# EAGLE library part SOCKET_LBGA256 (library microbuilder)
LBGA256 socket ... pitch is 1 mm
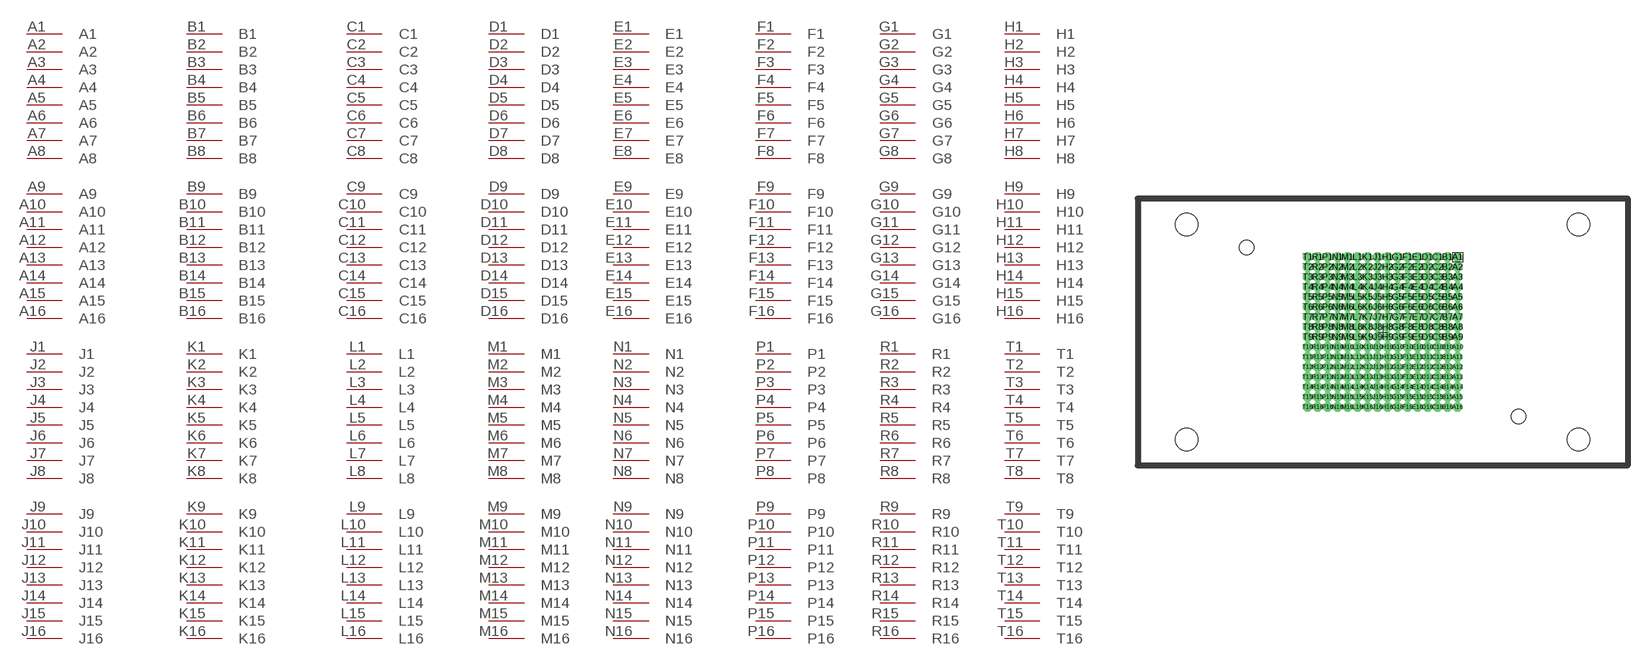
[diagram p130: symbol with the pads of SOCKET_LBGA256_8117-256-4E-01; footprint SOCKET_LBGA256_8117-256-4E-01]

Designator prefix IC

## SOCKET_LBGA256  [SOCKET_LBGA256_8117-256-4E-01]
A1  A1
A2  A2
A3  A3
A4  A4
A5  A5
A6  A6
A7  A7
A8  A8
A9  A9
A10  A10
A11  A11
A12  A12
A13  A13
A14  A14
A15  A15
A16  A16
B1  B1
B2  B2
B3  B3
B4  B4
B5  B5
B6  B6
B7  B7
B8  B8
B9  B9
B10  B10
B11  B11
B12  B12
B13  B13
B14  B14
B15  B15
B16  B16
C1  C1
C2  C2
C3  C3
C4  C4
C5  C5
C6  C6
C7  C7
C8  C8
C9  C9
C10  C10
C11  C11
C12  C12
C13  C13
C14  C14
C15  C15
C16  C16
D1  D1
D2  D2
D3  D3
D4  D4
D5  D5
D6  D6
D7  D7
D8  D8
D9  D9
D10  D10
D11  D11
D12  D12
D13  D13
D14  D14
D15  D15
D16  D16
E1  E1
E2  E2
E3  E3
E4  E4
E5  E5
E6  E6
E7  E7
E8  E8
E9  E9
E10  E10
E11  E11
E12  E12
E13  E13
E14  E14
E15  E15
E16  E16
F1  F1
F2  F2
F3  F3
F4  F4
F5  F5
F6  F6
F7  F7
F8  F8
F9  F9
F10  F10
F11  F11
F12  F12
F13  F13
F14  F14
F15  F15
F16  F16
G1  G1
G2  G2
G3  G3
G4  G4
G5  G5
G6  G6
G7  G7
G8  G8
G9  G9
G10  G10
G11  G11
G12  G12
G13  G13
G14  G14
G15  G15
G16  G16
H1  H1
H2  H2
H3  H3
H4  H4
H5  H5
H6  H6
H7  H7
H8  H8
H9  H9
H10  H10
H11  H11
H12  H12
H13  H13
H14  H14
H15  H15
H16  H16
J1  J1
J2  J2
J3  J3
J4  J4
J5  J5
J6  J6
J7  J7
J8  J8
J9  J9
J10  J10
J11  J11
J12  J12
J13  J13
J14  J14
J15  J15
J16  J16
K1  K1
K2  K2
K3  K3
K4  K4
K5  K5
K6  K6
K7  K7
K8  K8
K9  K9
K10  K10
K11  K11
K12  K12
K13  K13
K14  K14
K15  K15
K16  K16
L1  L1
L2  L2
L3  L3
L4  L4
L5  L5
L6  L6
L7  L7
L8  L8
L9  L9
L10  L10
L11  L11
L12  L12
L13  L13
L14  L14
L15  L15
L16  L16
M1  M1
M2  M2
M3  M3
M4  M4
M5  M5
M6  M6
M7  M7
M8  M8
M9  M9
M10  M10
M11  M11
M12  M12
M13  M13
M14  M14
M15  M15
M16  M16
N1  N1
N2  N2
N3  N3
N4  N4
N5  N5
N6  N6
N7  N7
N8  N8
N9  N9
N10  N10
N11  N11
N12  N12
N13  N13
N14  N14
N15  N15
N16  N16
P1  P1
P2  P2
P3  P3
P4  P4
P5  P5
P6  P6
P7  P7
P8  P8
P9  P9
P10  P10
P11  P11
P12  P12
P13  P13
P14  P14
P15  P15
P16  P16
R1  R1
R2  R2
R3  R3
R4  R4
R5  R5
R6  R6
R7  R7
R8  R8
R9  R9
R10  R10
R11  R11
R12  R12
R13  R13
R14  R14
R15  R15
R16  R16
T1  T1
T2  T2
T3  T3
T4  T4
T5  T5
T6  T6
T7  T7
T8  T8
T9  T9
T10  T10
T11  T11
T12  T12
T13  T13
T14  T14
T15  T15
T16  T16

## Footprint SOCKET_LBGA256_8117-256-4E-01 (pad centres in mm)
Wells 8117-256-4E-01 LBGA 256 socket LBGA256 ... pitch is 1 mm / diameter pin = 0.43 mm
drill 0.43 pad 0.7 octagon: A1 7.5,7.5; A2 7.5,6.5; A3 7.5,5.5; A4 7.5,4.5; A5 7.5,3.5; A6 7.5,2.5; A7 7.5,1.5; A8 7.5,0.5; A9 7.5,-0.5; A10 7.5,-1.5; A11 7.5,-2.5; A12 7.5,-3.5; A13 7.5,-4.5; A14 7.5,-5.5; A15 7.5,-6.5; A16 7.5,-7.5; B1 6.5,7.5; B2 6.5,6.5; B3 6.5,5.5; B4 6.5,4.5; B5 6.5,3.5; B6 6.5,2.5; B7 6.5,1.5; B8 6.5,0.5; B9 6.5,-0.5; B10 6.5,-1.5; B11 6.5,-2.5; B12 6.5,-3.5; B13 6.5,-4.5; B14 6.5,-5.5; B15 6.5,-6.5; B16 6.5,-7.5; C1 5.5,7.5; C2 5.5,6.5; C3 5.5,5.5; C4 5.5,4.5; C5 5.5,3.5; C6 5.5,2.5; C7 5.5,1.5; C8 5.5,0.5; C9 5.5,-0.5; C10 5.5,-1.5; C11 5.5,-2.5; C12 5.5,-3.5; C13 5.5,-4.5; C14 5.5,-5.5; C15 5.5,-6.5; C16 5.5,-7.5; D1 4.5,7.5; D2 4.5,6.5; D3 4.5,5.5; D4 4.5,4.5; D5 4.5,3.5; D6 4.5,2.5; D7 4.5,1.5; D8 4.5,0.5; D9 4.5,-0.5; D10 4.5,-1.5; D11 4.5,-2.5; D12 4.5,-3.5; D13 4.5,-4.5; D14 4.5,-5.5; D15 4.5,-6.5; D16 4.5,-7.5; E1 3.5,7.5; E2 3.5,6.5; E3 3.5,5.5; E4 3.5,4.5; E5 3.5,3.5; E6 3.5,2.5; E7 3.5,1.5; E8 3.5,0.5; E9 3.5,-0.5; E10 3.5,-1.5; E11 3.5,-2.5; E12 3.5,-3.5; E13 3.5,-4.5; E14 3.5,-5.5; E15 3.5,-6.5; E16 3.5,-7.5; F1 2.5,7.5; F2 2.5,6.5; F3 2.5,5.5; F4 2.5,4.5; F5 2.5,3.5; F6 2.5,2.5; F7 2.5,1.5; F8 2.5,0.5; F9 2.5,-0.5; F10 2.5,-1.5; F11 2.5,-2.5; F12 2.5,-3.5; F13 2.5,-4.5; F14 2.5,-5.5; F15 2.5,-6.5; F16 2.5,-7.5; G1 1.5,7.5; G2 1.5,6.5; G3 1.5,5.5; G4 1.5,4.5; G5 1.5,3.5; G6 1.5,2.5; G7 1.5,1.5; G8 1.5,0.5; G9 1.5,-0.5; G10 1.5,-1.5; G11 1.5,-2.5; G12 1.5,-3.5; G13 1.5,-4.5; G14 1.5,-5.5; G15 1.5,-6.5; G16 1.5,-7.5; H1 0.5,7.5; H2 0.5,6.5; H3 0.5,5.5; H4 0.5,4.5; H5 0.5,3.5; H6 0.5,2.5; H7 0.5,1.5; H8 0.5,0.5; H9 0.5,-0.5; H10 0.5,-1.5; H11 0.5,-2.5; H12 0.5,-3.5; H13 0.5,-4.5; H14 0.5,-5.5; H15 0.5,-6.5; H16 0.5,-7.5; J1 -0.5,7.5; J2 -0.5,6.5; J3 -0.5,5.5; J4 -0.5,4.5; J5 -0.5,3.5; J6 -0.5,2.5; J7 -0.5,1.5; J8 -0.5,0.5; J9 -0.5,-0.5; J10 -0.5,-1.5; J11 -0.5,-2.5; J12 -0.5,-3.5; J13 -0.5,-4.5; J14 -0.5,-5.5; J15 -0.5,-6.5; J16 -0.5,-7.5; K1 -1.5,7.5; K2 -1.5,6.5; K3 -1.5,5.5; K4 -1.5,4.5; K5 -1.5,3.5; K6 -1.5,2.5; K7 -1.5,1.5; K8 -1.5,0.5; K9 -1.5,-0.5; K10 -1.5,-1.5; K11 -1.5,-2.5; K12 -1.5,-3.5; K13 -1.5,-4.5; K14 -1.5,-5.5; K15 -1.5,-6.5; K16 -1.5,-7.5; L1 -2.5,7.5; L2 -2.5,6.5; L3 -2.5,5.5; L4 -2.5,4.5; L5 -2.5,3.5; L6 -2.5,2.5; L7 -2.5,1.5; L8 -2.5,0.5; L9 -2.5,-0.5; L10 -2.5,-1.5; L11 -2.5,-2.5; L12 -2.5,-3.5; L13 -2.5,-4.5; L14 -2.5,-5.5; L15 -2.5,-6.5; L16 -2.5,-7.5; M1 -3.5,7.5; M2 -3.5,6.5; M3 -3.5,5.5; M4 -3.5,4.5; M5 -3.5,3.5; M6 -3.5,2.5; M7 -3.5,1.5; M8 -3.5,0.5; M9 -3.5,-0.5; M10 -3.5,-1.5; M11 -3.5,-2.5; M12 -3.5,-3.5; M13 -3.5,-4.5; M14 -3.5,-5.5; M15 -3.5,-6.5; M16 -3.5,-7.5; N1 -4.5,7.5; N2 -4.5,6.5; N3 -4.5,5.5; N4 -4.5,4.5; N5 -4.5,3.5; N6 -4.5,2.5; N7 -4.5,1.5; N8 -4.5,0.5; N9 -4.5,-0.5; N10 -4.5,-1.5; N11 -4.5,-2.5; N12 -4.5,-3.5; N13 -4.5,-4.5; N14 -4.5,-5.5; N15 -4.5,-6.5; N16 -4.5,-7.5; P1 -5.5,7.5; P2 -5.5,6.5; P3 -5.5,5.5; P4 -5.5,4.5; P5 -5.5,3.5; P6 -5.5,2.5; P7 -5.5,1.5; P8 -5.5,0.5; P9 -5.5,-0.5; P10 -5.5,-1.5; P11 -5.5,-2.5; P12 -5.5,-3.5; P13 -5.5,-4.5; P14 -5.5,-5.5; P15 -5.5,-6.5; P16 -5.5,-7.5; R1 -6.5,7.5; R2 -6.5,6.5; R3 -6.5,5.5; R4 -6.5,4.5; R5 -6.5,3.5; R6 -6.5,2.5; R7 -6.5,1.5; R8 -6.5,0.5; R9 -6.5,-0.5; R10 -6.5,-1.5; R11 -6.5,-2.5; R12 -6.5,-3.5; R13 -6.5,-4.5; R14 -6.5,-5.5; R15 -6.5,-6.5; R16 -6.5,-7.5; T1 -7.5,7.5; T2 -7.5,6.5; T3 -7.5,5.5; T4 -7.5,4.5; T5 -7.5,3.5; T6 -7.5,2.5; T7 -7.5,1.5; T8 -7.5,0.5; T9 -7.5,-0.5; T10 -7.5,-1.5; T11 -7.5,-2.5; T12 -7.5,-3.5; T13 -7.5,-4.5; T14 -7.5,-5.5; T15 -7.5,-6.5; T16 -7.5,-7.5
hole 1.47 at 13.6,-8.45
hole 1.47 at -13.6,8.45
hole 2.26 at -19.6,10.75
hole 2.26 at -19.6,-10.75
hole 2.26 at 19.6,-10.75
hole 2.26 at 19.6,10.75